# EAGLE library part SW_DPDT_VOLTSEL (library wheat)
SWITCH, DPDT COLTAGE SELECTOR C&K V80212
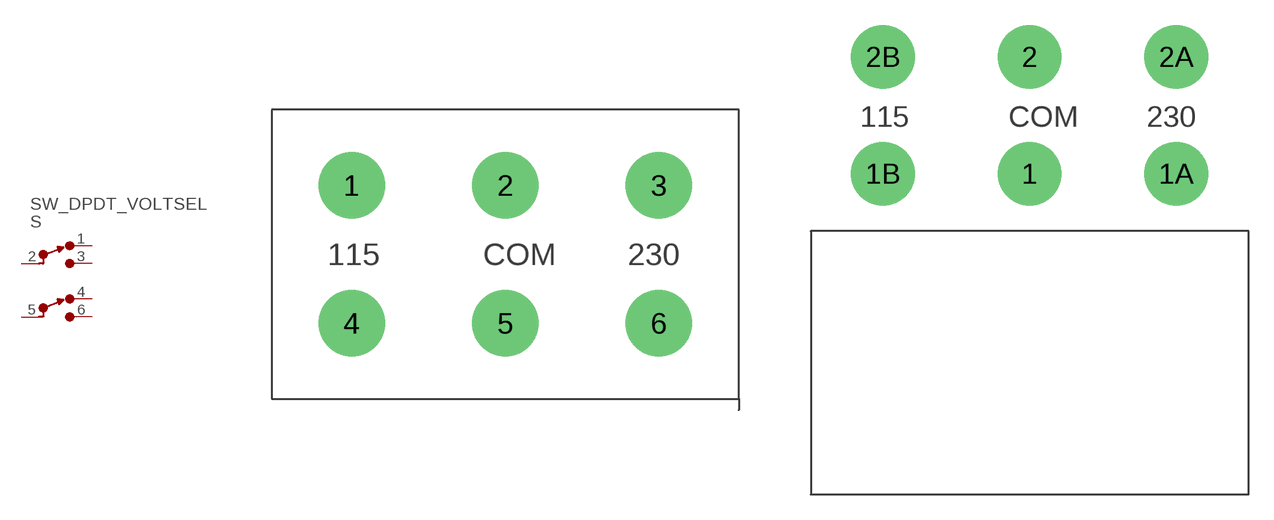
[diagram p17: symbol with the pads of SW_VOLTSEL; footprints SW_VOLTSEL, SW_DPDT_VSEL_RA]

Designator prefix S

## SW_DPDT_VOLTSEL  [SW_VOLTSEL]
1  NC1  pas
2  C1  pas
3  NO1  pas
4  NC2  pas
5  C2  pas
6  NO2  pas

## SW_DPDT_VOLTSEL_RA  [SW_DPDT_VSEL_RA]
1  C1  pas
1A  NO1  pas
1B  NC1  pas
2  C2  pas
2A  NO2  pas
2B  NC2  pas

## SW_DPDT_VOLTSEL_CKL  [SW_DPDT_CKL]
1  NO1  pas
2  C1  pas
3  NC1  pas
4  NO2  pas
5  C2  pas
6  NC2  pas

## Footprint SW_VOLTSEL (pad centres in mm)
SWITCH, DPDT VOLTAGE SELECTOR
drill 1.676 pad 3.81: 1 -8.763,3.937; 2 0,3.937; 3 8.763,3.937; 4 -8.763,-3.937; 5 0,-3.937; 6 8.763,-3.937

## Footprint SW_DPDT_VSEL_RA (pad centres in mm)
Voltage selector switch, right angle C&K V8021MA08Q
drill 1.676 pad 3.81: 1 0,19.177; 1A 8.763,19.177; 1B -8.763,19.177; 2 0,26.162; 2A 8.763,26.162; 2B -8.763,26.162

## Footprint SW_DPDT_CKL (pad centres in mm)
drill 1.651: 1 -2.857,-4.597; 2 -2.857,0; 3 -2.857,4.597; 4 2.857,-4.597; 5 2.857,0; 6 2.857,4.597